# EAGLE library part 6871XX14022_68710614022 (library WR-FPC)
WR-FPC 0.50 mm SMT ZIF Horizontal Top Contact KIND PROPERTIES Pitch 0.5 mm MATERIAL PROPERTIES Insulator Material LCP Contact Material Phosphor Bronze Contact Plating 100 (µ") Tin over 50 (µ") Nickel Contact Type Stamped Solder Tabs Brass <https://www.we-online.com/catalog/media/o32866v209%20Family_WE-FPC_6871xx14022.jpg> Details see: https://www.we-online.com/catalog/en/FPC_0_5_SMT_ZIF_HORIZONTAL_TOP_CONTACT_6871XX14022/ Updated by Ella Wu 2020-08-26 2020(C) Wurth Elektronik
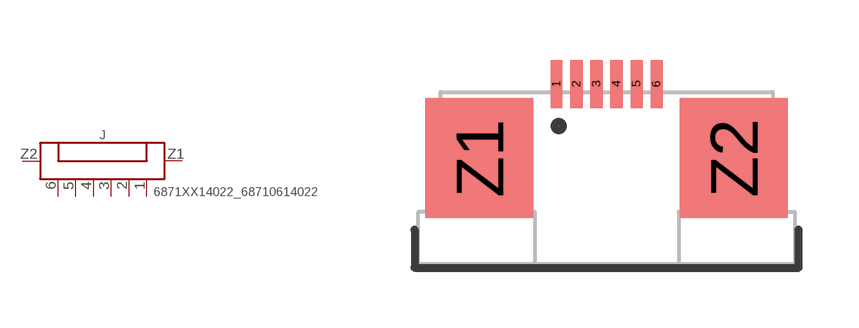
[diagram p68: symbol with the pads of 68710614022; footprint 68710614022]

Designator prefix J

## 6871XX14022_68710614022 (CONTACT-RESISTANCE: 20Ohm; DATASHEET-URL: https://www.we-online.com/catalog/datasheet/68710614022.pdf; IR: 0.5A; L: 9.4mm; PACKAGING: Tape and Reel; PART-NUMBER: 68710614022; PINS: 6; PITCH: 0.5mm; TYPE: Horizontal; VALUE: 68710614022; WORKING-VOLTAGE: 50V(AC))  [68710614022]
1  1  pas
2  2  pas
3  3  pas
4  4  pas
5  5  pas
6  6  pas
Z1  Z1  pas
Z2  Z2  pas

## Footprint 68710614022 (pad centres in mm)
WR-FPC 0.50 mm SMT ZIF Horizontal Top Contact ,6 Pins
smd 0.3 x 1.2: 1 -1.25,2.35; 2 -0.75,2.35; 3 -0.25,2.35; 4 0.25,2.35; 5 0.75,2.35; 6 1.25,2.35
smd 2.7 x 3: Z1 -3.18,0.49; Z2 3.18,0.49